# EAGLE library part 2X8 (library con-amp-micro-mate-n-lock)
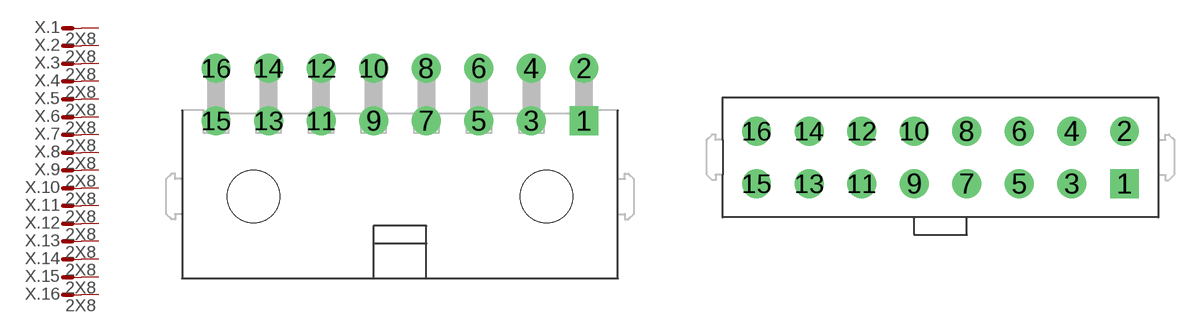
[diagram p12: symbol with the pads of 4-794618-6; footprints 4-794618-6, 4-794630-6]

Designator prefix X; gates .1=M .2=M .3=M .4=M .5=M .6=M .7=M .8=M .9=M .10=M .11=M .12=M .13=M .14=M .15=M .16=M

## 2X8-A  [4-794618-6]
1  .1:S  pas
2  .2:S  pas
3  .3:S  pas
4  .4:S  pas
5  .5:S  pas
6  .6:S  pas
7  .7:S  pas
8  .8:S  pas
9  .9:S  pas
10  .10:S  pas
11  .11:S  pas
12  .12:S  pas
13  .13:S  pas
14  .14:S  pas
15  .15:S  pas
16  .16:S  pas

## 2X8-B  [4-794630-6]
Pads as for 4-794618-6

## 2X8-C  [4-794677-6]
Pads as for 4-794618-6

## 2X8-D  [4-794680-6]
Pads as for 4-794618-6

## Footprint 4-794618-6 (pad centres in mm)
drill 1.1 square: 1 0,0
drill 1.1 round: 2 0,3; 3 -3,0; 4 -3,3; 5 -6,0; 6 -6,3; 7 -9,0; 8 -9,3; 9 -12,0; 10 -12,3; 11 -15,0; 12 -15,3; 13 -18,0; 14 -18,3; 15 -21,0; 16 -21,3
hole 3 at -2.15,-4.32
hole 3 at -18.85,-4.32

## Footprint 4-794630-6 (pad centres in mm)
drill 1.1 square: 1 0,0
drill 1.1 round: 2 0,3; 3 -3,0; 4 -3,3; 5 -6,0; 6 -6,3; 7 -9,0; 8 -9,3; 9 -12,0; 10 -12,3; 11 -15,0; 12 -15,3; 13 -18,0; 14 -18,3; 15 -21,0; 16 -21,3

## Footprint 4-794677-6 (pad centres in mm)
drill 1.1 square: 1 0,0
drill 1.1 round: 2 0,3; 3 -3,0; 4 -3,3; 5 -6,0; 6 -6,3; 7 -9,0; 8 -9,3; 9 -12,0; 10 -12,3; 11 -15,0; 12 -15,3; 13 -18,0; 14 -18,3; 15 -21,0; 16 -21,3
hole 2.4 at 2.15,-4.32
hole 2.4 at -23.15,-4.32

## Footprint 4-794680-6 (pad centres in mm)
drill 1.1 square: 1 0,0
drill 1.1 round: 2 0,3; 3 -3,0; 4 -3,3; 5 -6,0; 6 -6,3; 7 -9,0; 8 -9,3; 9 -12,0; 10 -12,3; 11 -15,0; 12 -15,3; 13 -18,0; 14 -18,3; 15 -21,0; 16 -21,3
hole 2.4 at -23.15,1.5
hole 2.4 at 2.15,1.5